# EAGLE library part 6LAN+2SFP (library switch)
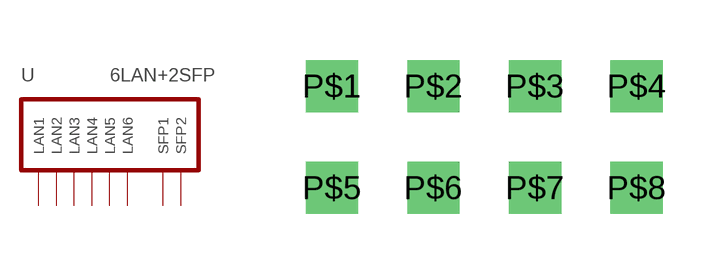
[diagram p0: symbol with the pads of 8PIN; footprint 8PIN]

Designator prefix -

## 6LAN+2SFP  [8PIN]
P$1  LAN1
P$2  LAN2
P$3  LAN3
P$4  LAN4
P$5  LAN5
P$6  LAN6
P$7  SFP1
P$8  SFP2

## Footprint 8PIN (pad centres in mm)
drill 0.8 square: P$1 -3.81,1.27; P$2 -1.27,1.27; P$3 1.27,1.27; P$4 3.81,1.27; P$5 -3.81,-1.27; P$6 -1.27,-1.27; P$7 1.27,-1.27; P$8 3.81,-1.27